# Altium schematic symbol library MA5172-AE.SchLib: 1 symbol
Pins are listed as number, name and electrical type; pins without a type are passive.

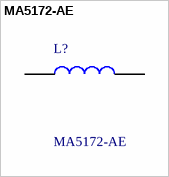
[diagram p0: symbol MA5172-AE]

## MA5172-AE
designator L?
Fixed Inductors 10uH Unshld 10% 6.1A 26mOhms; Manufacturer_Name: COILCRAFT; Geometry.Height: 28.6mm; Mouser Part Number: 994-MA5172-AE; Mouser Price/Stock: https://www.mouser.co.uk/ProductDetail/Coilcraft/MA5172-AE?qs=ZYnrCdKdyedMvVvFAobk3w%3D%3D; Manufacturer_Part_Number: MA5172-AE; Datasheet Link: https://www.mouser.it/datasheet/2/597/ma5172-463483.pdf
footprint MA5172AE
pins: 1, 2